# EAGLE library part LT8500 (library custom)
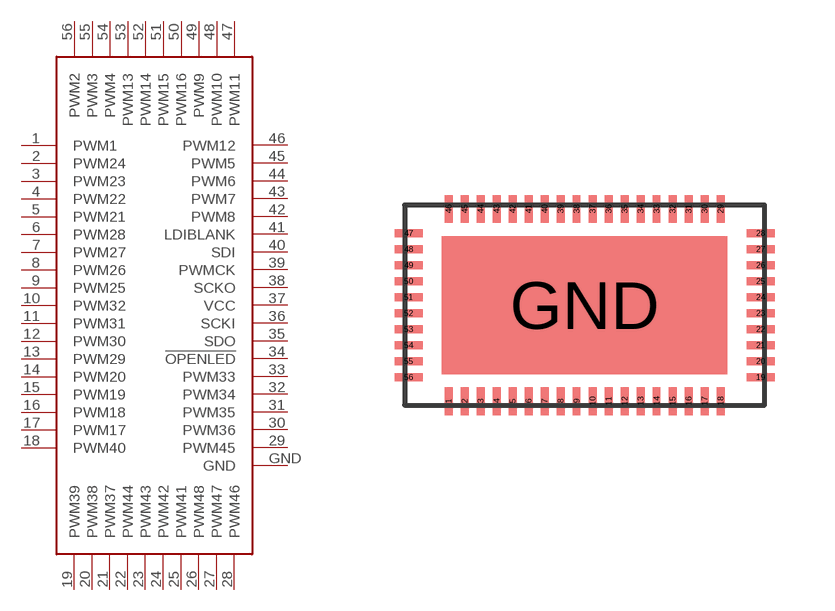
[diagram p3: symbol with the pads of QFN56; footprint QFN56]

Designator prefix -

## LT8500QFN56  [QFN56]
1  PWM1
2  PWM24
3  PWM23
4  PWM22
5  PWM21
6  PWM28
7  PWM27
8  PWM26
9  PWM25
10  PWM32
11  PWM31
12  PWM30
13  PWM29
14  PWM20
15  PWM19
16  PWM18
17  PWM17
18  PWM40
19  PWM39
20  PWM38
21  PWM37
22  PWM44
23  PWM43
24  PWM42
25  PWM41
26  PWM48
27  PWM47
28  PWM46
29  PWM45
30  PWM36
31  PWM35
32  PWM34
33  PWM33
34  !OPENLED
35  SDO
36  SCKI
37  VCC
38  SCKO
39  PWMCK
40  SDI
41  LDIBLANK
42  PWM8
43  PWM7
44  PWM6
45  PWM5
46  PWM12
47  PWM11
48  PWM10
49  PWM9
50  PWM16
51  PWM15
52  PWM14
53  PWM13
54  PWM4
55  PWM3
56  PWM2
GND  GND

## Footprint QFN56 (pad centres in mm)
QFN56 based on the LT8500 http://cds.linear.com/docs/Datasheet/8500f.pdf Originally made for Mason's LED cube. Untested.
smd 0.2 x 0.7: 1 1.1,0.1; 2 1.5,0.1; 3 1.9,0.1; 4 2.3,0.1; 5 2.7,0.1; 6 3.1,0.1; 7 3.5,0.1; 8 3.9,0.1; 9 4.3,0.1; 10 4.7,0.1; 11 5.1,0.1; 12 5.5,0.1; 13 5.9,0.1; 14 6.3,0.1; 15 6.7,0.1; 16 7.1,0.1; 17 7.5,0.1; 18 7.9,0.1; 29 7.9,4.9; 30 7.5,4.9; 31 7.1,4.9; 32 6.7,4.9; 33 6.3,4.9; 34 5.9,4.9; 35 5.5,4.9; 36 5.1,4.9; 37 4.7,4.9; 38 4.3,4.9; 39 3.9,4.9; 40 3.5,4.9; 41 3.1,4.9; 42 2.7,4.9; 43 2.3,4.9; 44 1.9,4.9; 45 1.5,4.9; 46 1.1,4.9
smd 0.7 x 0.2: 19 8.9,0.7; 20 8.9,1.1; 21 8.9,1.5; 22 8.9,1.9; 23 8.9,2.3; 24 8.9,2.7; 25 8.9,3.1; 26 8.9,3.5; 27 8.9,3.9; 28 8.9,4.3; 47 0.1,4.3; 48 0.1,3.9; 49 0.1,3.5; 50 0.1,3.1; 51 0.1,2.7; 52 0.1,2.3; 53 0.1,1.9; 54 0.1,1.5; 55 0.1,1.1; 56 0.1,0.7
smd 7.13 x 3.45: GND 4.5,2.5